# Altium footprint library Flex_D_SOD323_SYM.PcbLib: 1 footprints
Each footprint in its own frame and in the unit in brackets; x right, y up, seen from the top. Pads: shape width x height; smd on the part's side, far side on the other; paste and mask are expansions set on the pad; w line width, h text height; cw(c..) or ccw(c..) is an arc to the next point about the centre after c.
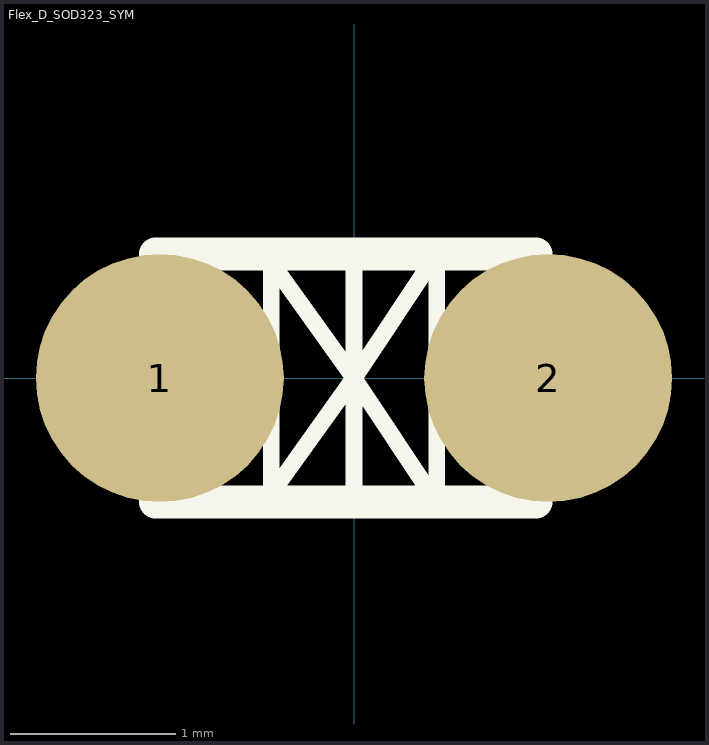
[diagram p0: the footprint, top view; thin cyan lines are the x and y axes]

## Flex_D_SOD323_SYM [mm]
height 0.889
pads (2):
  round 1.5 smd paste-0.203 mask-0.102: 1(-1.175,0) 2(1.175,0)
Top Overlay:
  lines w0.1: 0,-0.75 0,0.8 ; 0,0 0.5,-0.75 0.5,0.75 0,0 ; 0,0 -0.5,-0.7 -0.5,0.7 0,0
  lines w0.2: -1.2,-0.4 -1.2,-0.75 1.1,-0.75 1.1,-0.4 ; -1.2,0.4 -1.2,0.75 1.1,0.75 1.1,0.4
3D body: height 0.89, standoff 0, extent -0.889,-0.635 0.889,0.635